# EAGLE library part VL6180X (library vl6180x)
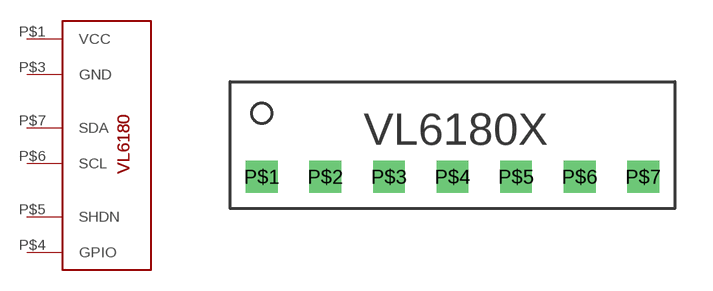
[diagram p0: symbol with the pads of VL6180X; footprint VL6180X]

Designator prefix -

## VL6180X  [VL6180X]
P$1  VCC
P$3  GND
P$4  GPIO
P$5  SHDN
P$6  SCL
P$7  SDA

## Footprint VL6180X (pad centres in mm)
drill 0.6 pad 1.27 square: P$1 0,0; P$2 2.54,0; P$3 5.08,0; P$4 7.62,0; P$5 10.16,0; P$6 12.7,0; P$7 15.24,0